# Altium schematic symbol library OpenPLCv0.2.0_Passives.SchLib: 1 symbol
Pins are listed as number, name and electrical type; pins without a type are passive.

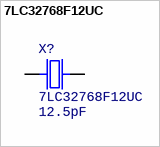
[diagram p0: symbol 7LC32768F12UC]

## 7LC32768F12UC
designator X?  Load capacitance: 12.5pF
32.768KHz ±20ppm 12.5pF 70kΩ SMD-3215_2P SMD Crystal Resonators RoHS; Package: 3215
footprint CRYSTAL_3215
pins: 1, 2